# Altium footprint library Manufacturing.PcbLib: 3 footprints
Each footprint in its own frame and in the unit in brackets; x right, y up, seen from the top. Pads: shape width x height; smd on the part's side, far side on the other; paste and mask are expansions set on the pad; w line width, h text height; cw(c..) or ccw(c..) is an arc to the next point about the centre after c.
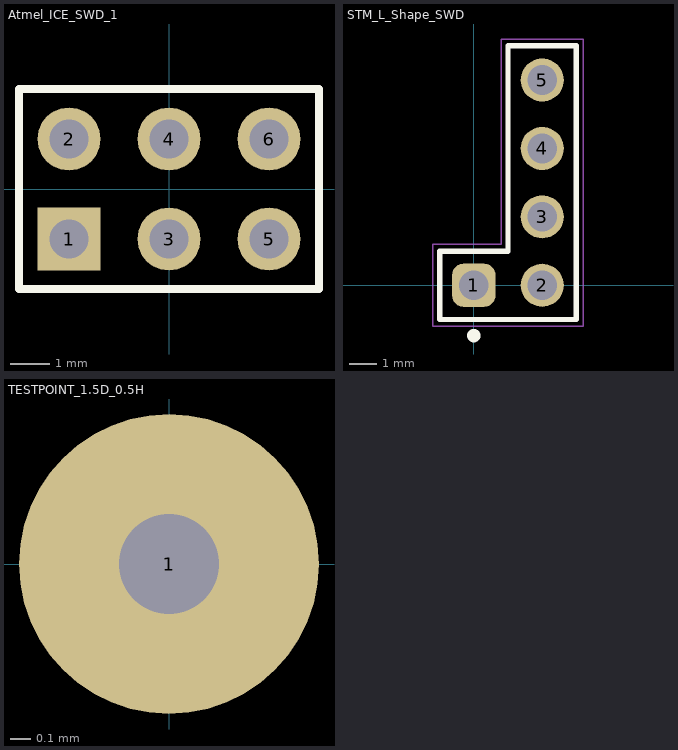
[diagram p0: the footprints below, top view; thin cyan lines are the x and y axes]

## Atmel_ICE_SWD_1 [mm]
pads (6):
  rect 1.6x1.6 hole 1: 1(-2.54,-1.27)
  round 1.6 hole 1: 2(-2.54,1.27) 3(0,-1.27) 4(0,1.27) 5(2.54,-1.27) 6(2.54,1.27)
Top Overlay:
  lines w0.2: -1.058,-2.54 3.81,-2.54 ; 3.81,-2.54 3.81,2.54 -3.81,2.54 -3.81,-2.54 3.81,-2.54

## STM_L_Shape_SWD [mm]
pads (5):
  rrect50% 1.6x1.6 hole 1.1: 1(0,0)
  round 1.6 hole 1.1: 2(2.54,0) 3(2.54,2.54) 4(2.54,5.08) 5(2.54,7.62)
Top Overlay:
  circle w0.25: c0,-1.87 r0.125
  lines w0.2: -1.27,-1.27 3.81,-1.27 3.81,8.89 1.27,8.89 1.27,1.27 -1.27,1.27 -1.27,-1.27
Top Courtyard:
  lines w0.05: -1.524,-1.524 4.064,-1.524 4.064,9.144 1.016,9.144 1.016,1.524 -1.524,1.524 -1.524,-1.524
Top Component Outline:
  lines w0.1: -1.27,-1.27 -1.27,1.27 1.27,1.27 1.27,8.89 3.81,8.89 3.81,-1.27 -1.27,-1.27
Top Designator:
  text ".Designator" at 2.024,-2.418 h1.5
Top Component Center:
  lines w0.05: 2.04,2.54 3.04,2.54 ; 2.54,2.04 2.54,3.04

## TESTPOINT_1.5D_0.5H [mm]
pads (1):
  round 1.5 hole 0.5: 1(0,0)